# Altium footprint library Diode_Diodes_MMBZ5240B-7-F_eec_0.PcbLib: 1 footprints
Each footprint in its own frame and in the unit in brackets; x right, y up, seen from the top. Pads: shape width x height; smd on the part's side, far side on the other; paste and mask are expansions set on the pad; w line width, h text height; cw(c..) or ccw(c..) is an arc to the next point about the centre after c.
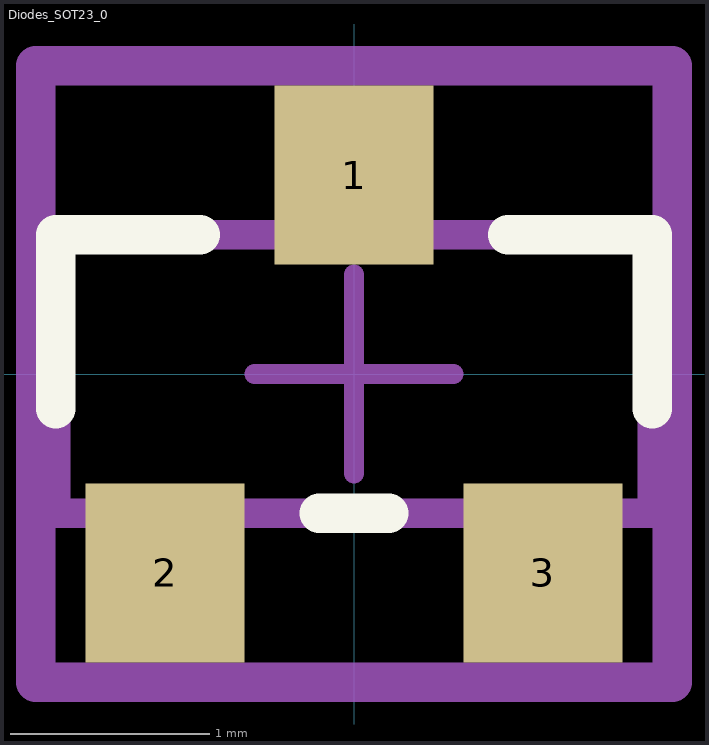
[diagram p0: the footprint, top view; thin cyan lines are the x and y axes]

## Diodes_SOT23_0 [mm]
pads (3):
  rect 0.8x0.9 smd paste+0 mask+0: 1(0,1) 2(-0.95,-1) 3(0.95,-1)
Top Overlay:
  lines w0.2: -1.5,-0.175 -1.5,0.7 -0.775,0.7 ; -0.175,-0.7 0.175,-0.7 ; 0.775,0.7 1.5,0.7 1.5,-0.175
Mechanical 10:
  lines w0.2: -1.6,-1.55 -1.6,1.55 1.6,1.55 1.6,-1.55 -1.6,-1.55
  text ".Designator" at 0,0 h1
Mechanical 12:
  lines w0.15: -1.5,-0.7 -1.5,0.7 1.5,0.7 1.5,-0.7 -1.5,-0.7
Mechanical 15:
  lines w0.1: -0.5,0 0.5,0 ; 0,-0.5 0,0.5
  lines w0.2: -1.6,-1.55 -1.6,1.55 1.6,1.55 1.6,-1.55 -1.6,-1.55
3D body "Diode_Diodes_MMBZ5240B-7-F_eec.STEP": height 1.04, standoff -0.01, extent -1.45,-1.25 1.45,1.25